# Altium schematic symbol library KB-ES09-4D.SchLib: 1 symbol
Pins are listed as number, name and electrical type; pins without a type are passive.

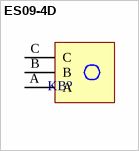
[diagram p0: symbol ES09-4D]

## ES09-4D
designator KB?
pins: A, B, C